# Altium footprint library PQ3218-3R3-70-T.PcbLib: 1 footprints
Each footprint in its own frame and in the unit in brackets; x right, y up, seen from the top. Pads: shape width x height; smd on the part's side, far side on the other; paste and mask are expansions set on the pad; w line width, h text height; cw(c..) or ccw(c..) is an arc to the next point about the centre after c.
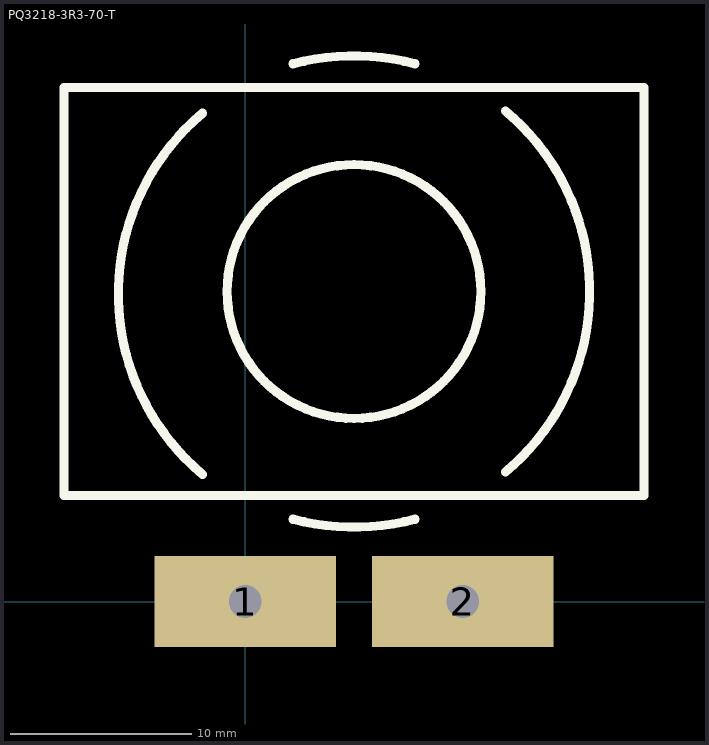
[diagram p0: the footprint, top view; thin cyan lines are the x and y axes]

## PQ3218-3R3-70-T [mm] "PQ3218-3R3-70-T Inductor"
height 18
pads (2):
  rect 10x5 hole 1.8 square: 1(0,0) 2(12,0)
Top Overlay:
  circle w0.508: c6,17.1 r7
  lines w0.508: -2.356,7.014 cw(c6,16.973) -2.356,26.932 ; 2.635,4.543 ccw(c6,17.1) 9.365,4.543 ; 2.635,29.657 cw(c6,17.1) 9.365,29.657 ; 14.356,7.141 ccw(c6,17.1) 14.356,27.059 ; -10,5.842 22,5.842 22,28.346 -10,28.346 -10,5.842